# Altium integrated library ON Semi Signal Management Digital POTs.IntLib: 284 symbols (part 6 of 11)
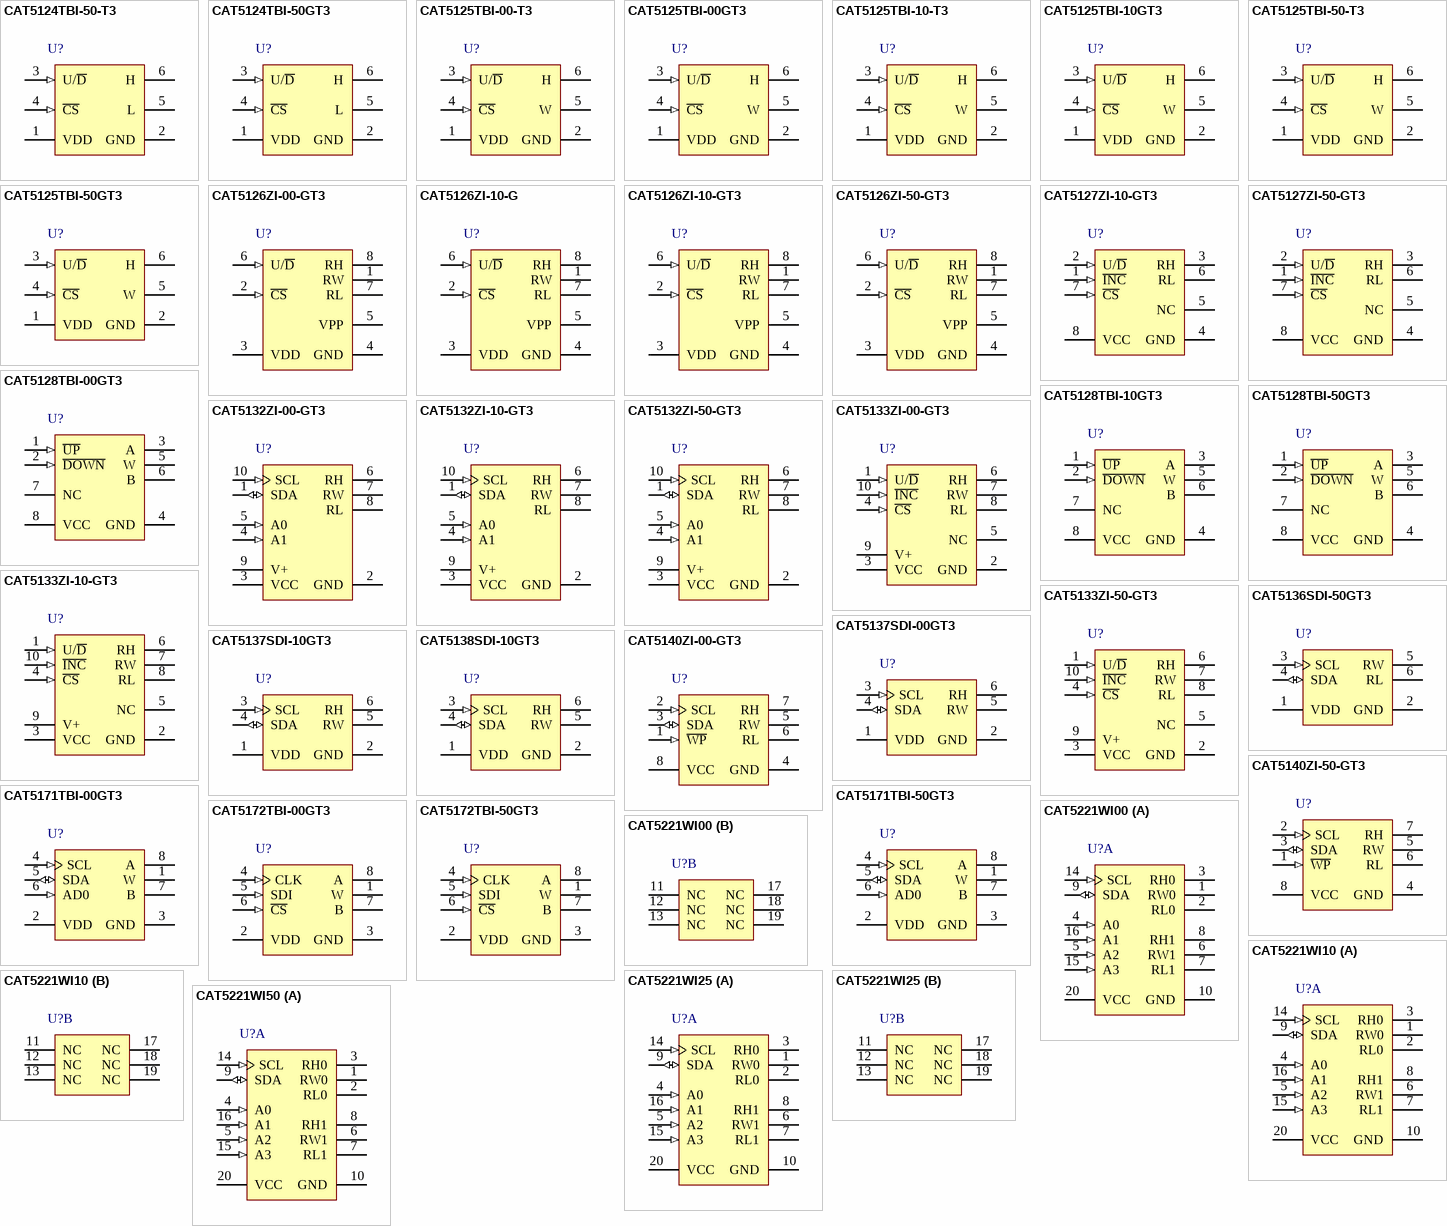
[diagram p14: symbols CAT5124TBI-50-T3 to CAT5221WI50]

## CAT5221WI25
designator U?
Dual Digital Potentiometer (POT) with 64 Tap and I2C Interface, -40 to 85 degC, 20-Pin SOIC, Pb-Free, Tube; Manufacturer: On Semiconductor; PartNumber: CAT5221WI25; # of Pots: 2; # of Taps: 64; VDD Max (V): 6; DatasheetVersion: Rev. 14; PackageVersion: Rev. O, 12/2008; PackageReference: SOIC-20-751BJ-01; PackageDescription: 20-Pin Small Outline Integrated Circuit, Body 12.8 x 7.5 mm, Pitch 1.27 mm; Control Interface: I2C; Packing: Tube; RoHS: TRUE; Type: Potentiometer; Mounting Technology: Surface Mount; Code_JEDEC: MS-013; ComponentLink1Description: Manufacturer URL; ComponentLink1URL: http://www.onsemi.com/; ComponentLink2Description: Datasheet; ComponentLink2URL: http://www.onsemi.cn/pub_link/Collateral/CAT5221-D.PDF; ComponentLink3Description: Package Specification; ComponentLink3URL: http://www.onsemi.cn/pub_link/Collateral/751BJ.PDF
footprint ONSC-SOIC-20-751BJ-01_N (SOIC, 20-Leads, Body 13x7.6mm, Pitch 1.27mm, IPC Medium Density)
footprint ONSC-SOIC-20-751BJ-01_L (SOIC, 20-Leads, Body 13x7.6mm, Pitch 1.27mm, IPC High Density)
footprint ONSC-SOIC-20-751BJ-01_M (SOIC, 20-Leads, Body 13x7.6mm, Pitch 1.27mm, IPC Low Density)
part A pins: 1 RW0 "Wiper Terminal for Potentiometer 0", 2 RL0 "Low Reference Terminal for Potentiometer 0", 3 RH0 "High Reference Terminal for Potentiometer 0", 4 A0 (in) "Device Address, LSB", 5 A2 (in) "Device Address", 6 RW1 "Wiper Terminal for Potentiometer 1", 7 RL1 "Low Reference Terminal for Potentiometer 1", 8 RH1 "High Reference Terminal for Potentiometer 1", 9 SDA (io) "Serial Data Input/Output", 10 GND (power) "Ground", 14 SCL (in) "Bus Serial Clock", 15 A3 (in) "Device Address", 16 A1 (in) "Device Address", 20 VCC (power) "Supply Voltage"
part B pins: 11 NC "No Connect", 12 NC "No Connect", 13 NC "No Connect", 17 NC "No Connect", 18 NC "No Connect", 19 NC "No Connect"

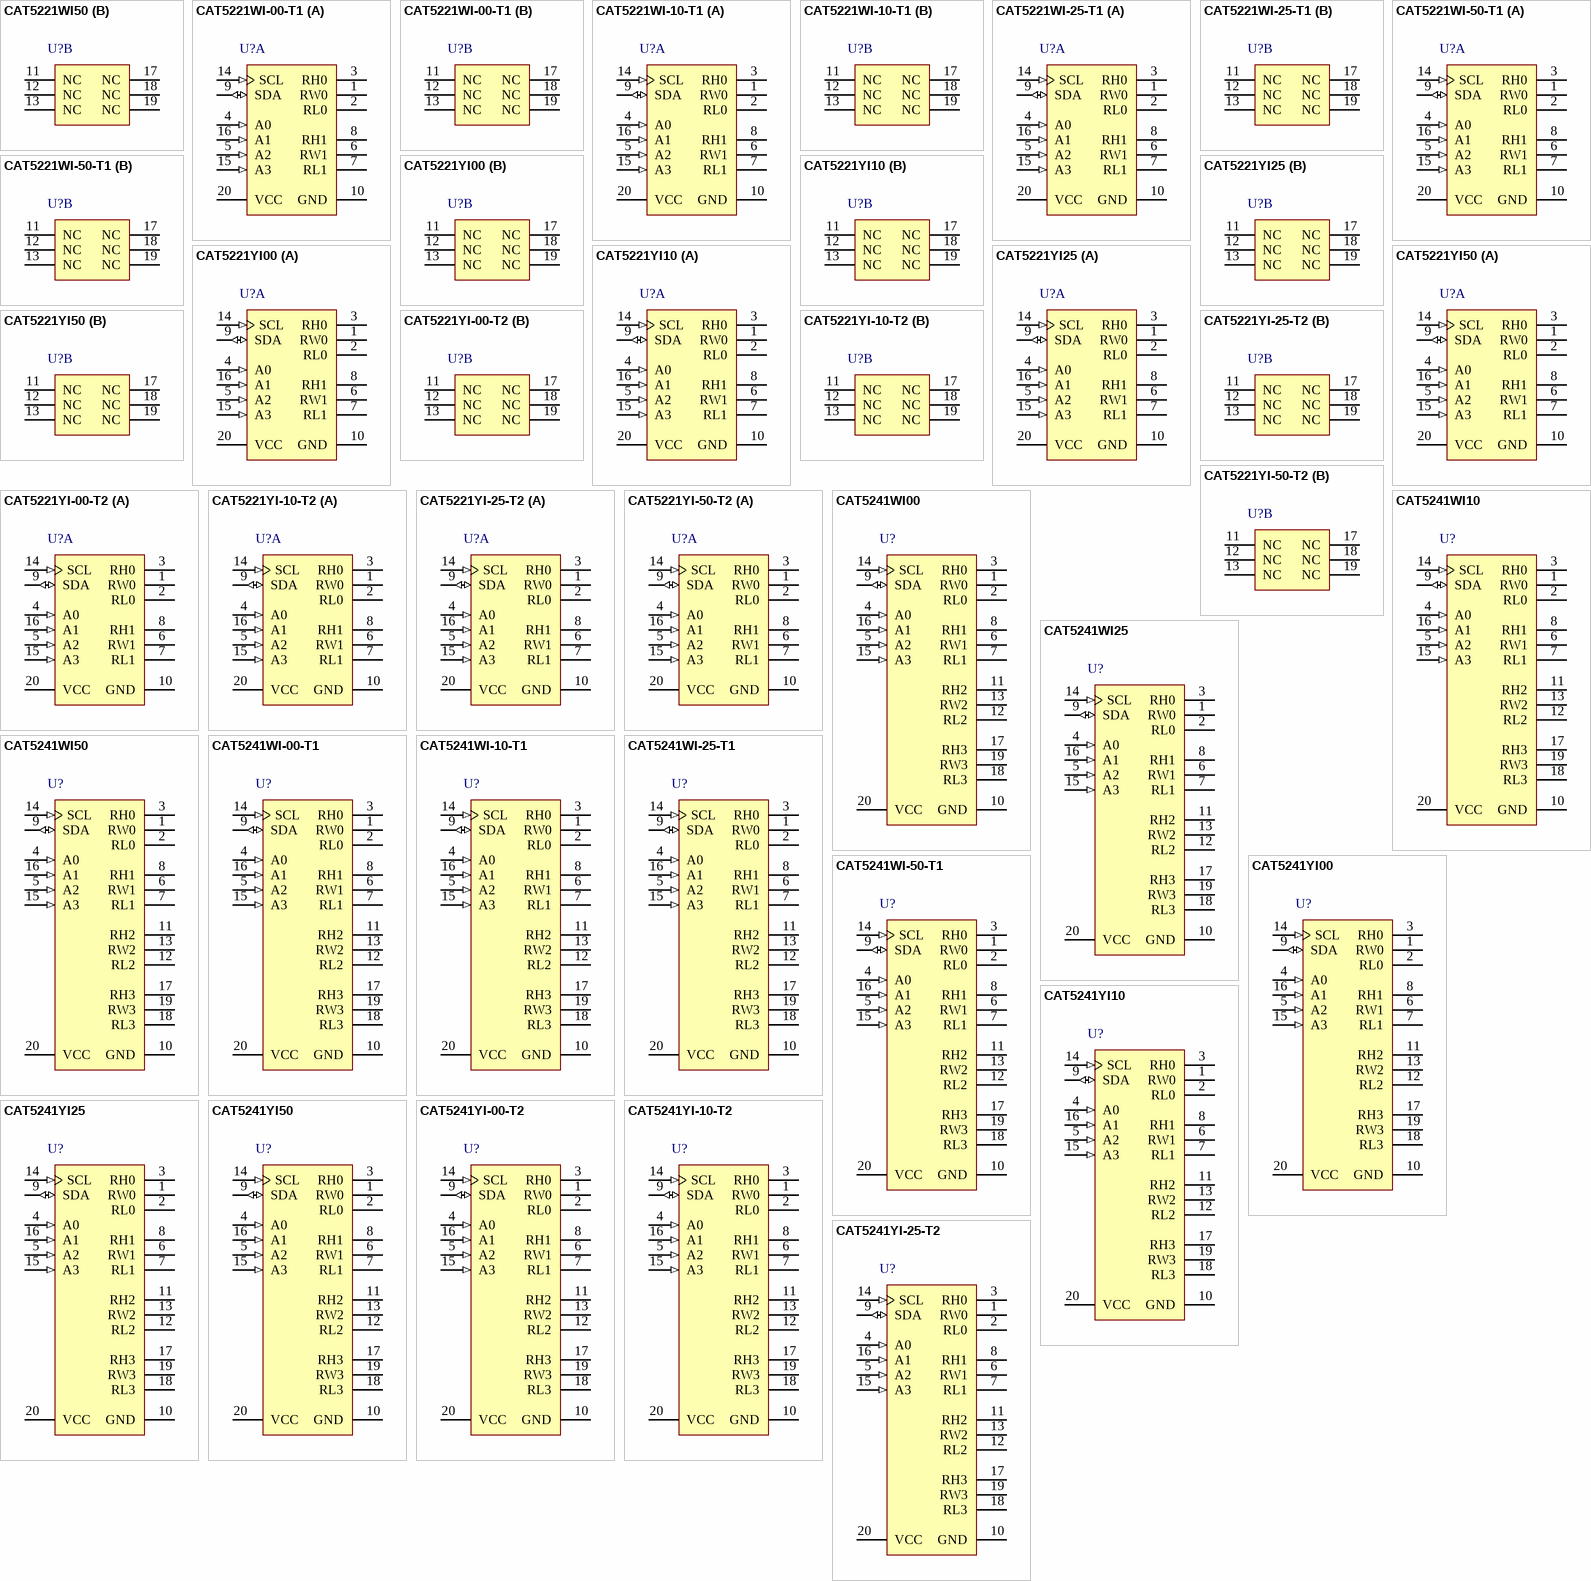
[diagram p4: symbols CAT5221WI50 to CAT5241YI-25-T2]

## CAT5221WI50
designator U?
Dual Digital Potentiometer (POT) with 64 Tap and I2C Interface, -40 to 85 degC, 20-Pin SOIC, Pb-Free, Tube; Manufacturer: On Semiconductor; PartNumber: CAT5221WI50; # of Pots: 2; # of Taps: 64; VDD Max (V): 6; DatasheetVersion: Rev. 14; PackageVersion: Rev. O, 12/2008; PackageReference: SOIC-20-751BJ-01; PackageDescription: 20-Pin Small Outline Integrated Circuit, Body 12.8 x 7.5 mm, Pitch 1.27 mm; Control Interface: I2C; Packing: Tube; RoHS: TRUE; Type: Potentiometer; Mounting Technology: Surface Mount; Code_JEDEC: MS-013; ComponentLink1Description: Manufacturer URL; ComponentLink1URL: http://www.onsemi.com/; ComponentLink2Description: Datasheet; ComponentLink2URL: http://www.onsemi.cn/pub_link/Collateral/CAT5221-D.PDF; ComponentLink3Description: Package Specification; ComponentLink3URL: http://www.onsemi.cn/pub_link/Collateral/751BJ.PDF
footprint ONSC-SOIC-20-751BJ-01_N (SOIC, 20-Leads, Body 13x7.6mm, Pitch 1.27mm, IPC Medium Density)
footprint ONSC-SOIC-20-751BJ-01_L (SOIC, 20-Leads, Body 13x7.6mm, Pitch 1.27mm, IPC High Density)
footprint ONSC-SOIC-20-751BJ-01_M (SOIC, 20-Leads, Body 13x7.6mm, Pitch 1.27mm, IPC Low Density)
part A pins: 1 RW0 "Wiper Terminal for Potentiometer 0", 2 RL0 "Low Reference Terminal for Potentiometer 0", 3 RH0 "High Reference Terminal for Potentiometer 0", 4 A0 (in) "Device Address, LSB", 5 A2 (in) "Device Address", 6 RW1 "Wiper Terminal for Potentiometer 1", 7 RL1 "Low Reference Terminal for Potentiometer 1", 8 RH1 "High Reference Terminal for Potentiometer 1", 9 SDA (io) "Serial Data Input/Output", 10 GND (power) "Ground", 14 SCL (in) "Bus Serial Clock", 15 A3 (in) "Device Address", 16 A1 (in) "Device Address", 20 VCC (power) "Supply Voltage"
part B pins: 11 NC "No Connect", 12 NC "No Connect", 13 NC "No Connect", 17 NC "No Connect", 18 NC "No Connect", 19 NC "No Connect"

## CAT5221WI-00-T1
designator U?
Dual Digital Potentiometer (POT) with 64 Tap and I2C Interface, -40 to 85 degC, 20-Pin SOIC, Pb-Free, Tape and Reel; Manufacturer: On Semiconductor; PartNumber: CAT5221WI-00-T1; # of Pots: 2; # of Taps: 64; VDD Max (V): 6; DatasheetVersion: Rev. 14; PackageVersion: Rev. O, 12/2008; PackageReference: SOIC-20-751BJ-01; PackageDescription: 20-Pin Small Outline Integrated Circuit, Body 12.8 x 7.5 mm, Pitch 1.27 mm; Supplier 1: Digi-Key; Supplier Part Number 1: CAT5221WI-00-T1-ND; Supplier 2: Mouser; Supplier Part Number 2: 863-CAT5221WI-00-T1; Control Interface: I2C; Packing: Tape and Reel; RoHS: TRUE; Type: Potentiometer; Mounting Technology: Surface Mount; Code_JEDEC: MS-013; ComponentLink1Description: Manufacturer URL; ComponentLink1URL: http://www.onsemi.com/; ComponentLink2Description: Datasheet; ComponentLink2URL: http://www.onsemi.cn/pub_link/Collateral/CAT5221-D.PDF; ComponentLink3Description: Package Specification; ComponentLink3URL: http://www.onsemi.cn/pub_link/Collateral/751BJ.PDF
footprint ONSC-SOIC-20-751BJ-01_N (SOIC, 20-Leads, Body 13x7.6mm, Pitch 1.27mm, IPC Medium Density)
footprint ONSC-SOIC-20-751BJ-01_L (SOIC, 20-Leads, Body 13x7.6mm, Pitch 1.27mm, IPC High Density)
footprint ONSC-SOIC-20-751BJ-01_M (SOIC, 20-Leads, Body 13x7.6mm, Pitch 1.27mm, IPC Low Density)
part A pins: 1 RW0 "Wiper Terminal for Potentiometer 0", 2 RL0 "Low Reference Terminal for Potentiometer 0", 3 RH0 "High Reference Terminal for Potentiometer 0", 4 A0 (in) "Device Address, LSB", 5 A2 (in) "Device Address", 6 RW1 "Wiper Terminal for Potentiometer 1", 7 RL1 "Low Reference Terminal for Potentiometer 1", 8 RH1 "High Reference Terminal for Potentiometer 1", 9 SDA (io) "Serial Data Input/Output", 10 GND (power) "Ground", 14 SCL (in) "Bus Serial Clock", 15 A3 (in) "Device Address", 16 A1 (in) "Device Address", 20 VCC (power) "Supply Voltage"
part B pins: 11 NC "No Connect", 12 NC "No Connect", 13 NC "No Connect", 17 NC "No Connect", 18 NC "No Connect", 19 NC "No Connect"

## CAT5221WI-10-T1
designator U?
Dual Digital Potentiometer (POT) with 64 Tap and I2C Interface, -40 to 85 degC, 20-Pin SOIC, Pb-Free, Tape and Reel; Manufacturer: On Semiconductor; PartNumber: CAT5221WI-10-T1; # of Pots: 2; # of Taps: 64; VDD Max (V): 6; DatasheetVersion: Rev. 14; PackageVersion: Rev. O, 12/2008; PackageReference: SOIC-20-751BJ-01; PackageDescription: 20-Pin Small Outline Integrated Circuit, Body 12.8 x 7.5 mm, Pitch 1.27 mm; Supplier 1: Digi-Key; Supplier Part Number 1: CAT5221WI-10-T1TR-ND; Supplier 2: Digi-Key; Supplier Part Number 2: CAT5221WI-10-T1CT-ND; Supplier 3: Digi-Key; Supplier Part Number 3: CAT5221WI-10-T1DKR-ND; Supplier 4: Newark; Supplier Part Number 4: 06R1242; Supplier 5: Mouser; Supplier Part Number 5: 698-CAT5221WI-10-T1; Control Interface: I2C; Packing: Tape and Reel; RoHS: TRUE; Type: Potentiometer; Mounting Technology: Surface Mount; Code_JEDEC: MS-013; ComponentLink1Description: Manufacturer URL; ComponentLink1URL: http://www.onsemi.com/; ComponentLink2Description: Datasheet; ComponentLink2URL: http://www.onsemi.cn/pub_link/Collateral/CAT5221-D.PDF; ComponentLink3Description: Package Specification; ComponentLink3URL: http://www.onsemi.cn/pub_link/Collateral/751BJ.PDF
footprint ONSC-SOIC-20-751BJ-01_N (SOIC, 20-Leads, Body 13x7.6mm, Pitch 1.27mm, IPC Medium Density)
footprint ONSC-SOIC-20-751BJ-01_L (SOIC, 20-Leads, Body 13x7.6mm, Pitch 1.27mm, IPC High Density)
footprint ONSC-SOIC-20-751BJ-01_M (SOIC, 20-Leads, Body 13x7.6mm, Pitch 1.27mm, IPC Low Density)
part A pins: 1 RW0 "Wiper Terminal for Potentiometer 0", 2 RL0 "Low Reference Terminal for Potentiometer 0", 3 RH0 "High Reference Terminal for Potentiometer 0", 4 A0 (in) "Device Address, LSB", 5 A2 (in) "Device Address", 6 RW1 "Wiper Terminal for Potentiometer 1", 7 RL1 "Low Reference Terminal for Potentiometer 1", 8 RH1 "High Reference Terminal for Potentiometer 1", 9 SDA (io) "Serial Data Input/Output", 10 GND (power) "Ground", 14 SCL (in) "Bus Serial Clock", 15 A3 (in) "Device Address", 16 A1 (in) "Device Address", 20 VCC (power) "Supply Voltage"
part B pins: 11 NC "No Connect", 12 NC "No Connect", 13 NC "No Connect", 17 NC "No Connect", 18 NC "No Connect", 19 NC "No Connect"

## CAT5221WI-25-T1
designator U?
Dual Digital Potentiometer (POT) with 64 Tap and I2C Interface, -40 to 85 degC, 20-Pin SOIC, Pb-Free, Tape and Reel; Manufacturer: On Semiconductor; PartNumber: CAT5221WI-25-T1; # of Pots: 2; # of Taps: 64; VDD Max (V): 6; DatasheetVersion: Rev. 14; PackageVersion: Rev. O, 12/2008; PackageReference: SOIC-20-751BJ-01; PackageDescription: 20-Pin Small Outline Integrated Circuit, Body 12.8 x 7.5 mm, Pitch 1.27 mm; Supplier 1: Digi-Key; Supplier Part Number 1: CAT5221WI-25-T1-ND; Supplier 2: Mouser; Supplier Part Number 2: 863-CAT5221WI-25-T1; Control Interface: I2C; Packing: Tape and Reel; RoHS: TRUE; Type: Potentiometer; Mounting Technology: Surface Mount; Code_JEDEC: MS-013; ComponentLink1Description: Manufacturer URL; ComponentLink1URL: http://www.onsemi.com/; ComponentLink2Description: Datasheet; ComponentLink2URL: http://www.onsemi.cn/pub_link/Collateral/CAT5221-D.PDF; ComponentLink3Description: Package Specification; ComponentLink3URL: http://www.onsemi.cn/pub_link/Collateral/751BJ.PDF
footprint ONSC-SOIC-20-751BJ-01_N (SOIC, 20-Leads, Body 13x7.6mm, Pitch 1.27mm, IPC Medium Density)
footprint ONSC-SOIC-20-751BJ-01_L (SOIC, 20-Leads, Body 13x7.6mm, Pitch 1.27mm, IPC High Density)
footprint ONSC-SOIC-20-751BJ-01_M (SOIC, 20-Leads, Body 13x7.6mm, Pitch 1.27mm, IPC Low Density)
part A pins: 1 RW0 "Wiper Terminal for Potentiometer 0", 2 RL0 "Low Reference Terminal for Potentiometer 0", 3 RH0 "High Reference Terminal for Potentiometer 0", 4 A0 (in) "Device Address, LSB", 5 A2 (in) "Device Address", 6 RW1 "Wiper Terminal for Potentiometer 1", 7 RL1 "Low Reference Terminal for Potentiometer 1", 8 RH1 "High Reference Terminal for Potentiometer 1", 9 SDA (io) "Serial Data Input/Output", 10 GND (power) "Ground", 14 SCL (in) "Bus Serial Clock", 15 A3 (in) "Device Address", 16 A1 (in) "Device Address", 20 VCC (power) "Supply Voltage"
part B pins: 11 NC "No Connect", 12 NC "No Connect", 13 NC "No Connect", 17 NC "No Connect", 18 NC "No Connect", 19 NC "No Connect"

## CAT5221WI-50-T1
designator U?
Dual Digital Potentiometer (POT) with 64 Tap and I2C Interface, -40 to 85 degC, 20-Pin SOIC, Pb-Free, Tape and Reel; Manufacturer: On Semiconductor; PartNumber: CAT5221WI-50-T1; # of Pots: 2; # of Taps: 64; VDD Max (V): 6; DatasheetVersion: Rev. 14; PackageVersion: Rev. O, 12/2008; PackageReference: SOIC-20-751BJ-01; PackageDescription: 20-Pin Small Outline Integrated Circuit, Body 12.8 x 7.5 mm, Pitch 1.27 mm; Supplier 1: Digi-Key; Supplier Part Number 1: CAT5221WI-50-T1-ND; Supplier 2: Mouser; Supplier Part Number 2: 863-CAT5221WI-50-T1; Control Interface: I2C; Packing: Tape and Reel; RoHS: TRUE; Type: Potentiometer; Mounting Technology: Surface Mount; Code_JEDEC: MS-013; ComponentLink1Description: Manufacturer URL; ComponentLink1URL: http://www.onsemi.com/; ComponentLink2Description: Datasheet; ComponentLink2URL: http://www.onsemi.cn/pub_link/Collateral/CAT5221-D.PDF; ComponentLink3Description: Package Specification; ComponentLink3URL: http://www.onsemi.cn/pub_link/Collateral/751BJ.PDF
footprint ONSC-SOIC-20-751BJ-01_N (SOIC, 20-Leads, Body 13x7.6mm, Pitch 1.27mm, IPC Medium Density)
footprint ONSC-SOIC-20-751BJ-01_L (SOIC, 20-Leads, Body 13x7.6mm, Pitch 1.27mm, IPC High Density)
footprint ONSC-SOIC-20-751BJ-01_M (SOIC, 20-Leads, Body 13x7.6mm, Pitch 1.27mm, IPC Low Density)
part A pins: 1 RW0 "Wiper Terminal for Potentiometer 0", 2 RL0 "Low Reference Terminal for Potentiometer 0", 3 RH0 "High Reference Terminal for Potentiometer 0", 4 A0 (in) "Device Address, LSB", 5 A2 (in) "Device Address", 6 RW1 "Wiper Terminal for Potentiometer 1", 7 RL1 "Low Reference Terminal for Potentiometer 1", 8 RH1 "High Reference Terminal for Potentiometer 1", 9 SDA (io) "Serial Data Input/Output", 10 GND (power) "Ground", 14 SCL (in) "Bus Serial Clock", 15 A3 (in) "Device Address", 16 A1 (in) "Device Address", 20 VCC (power) "Supply Voltage"
part B pins: 11 NC "No Connect", 12 NC "No Connect", 13 NC "No Connect", 17 NC "No Connect", 18 NC "No Connect", 19 NC "No Connect"

## CAT5221YI00
designator U?
Dual Digital Potentiometer (POT) with 64 Tap and I2C Interface, -40 to 85 degC, 20-Pin TSSOP, Pb-Free, Tube; Manufacturer: On Semiconductor; PartNumber: CAT5221YI00; # of Pots: 2; # of Taps: 64; VDD Max (V): 6; DatasheetVersion: Rev. 14; PackageVersion: Rev. A, 03/2009; PackageReference: TSSOP-20-948AQ-01; PackageDescription: 20-Pin Small Outline Package, Body 6.5 x 4.4 mm, Pitch 0.65 mm; Control Interface: I2C; Packing: Tube; RoHS: TRUE; Type: Potentiometer; Mounting Technology: Surface Mount; Code_JEDEC: MO-153; ComponentLink1Description: Manufacturer URL; ComponentLink1URL: http://www.onsemi.com/; ComponentLink2Description: Datasheet; ComponentLink2URL: http://www.onsemi.cn/pub_link/Collateral/CAT5221-D.PDF; ComponentLink3Description: Package Specification; ComponentLink3URL: http://www.onsemi.cn/pub_link/Collateral/948AQ.PDF
footprint ONSC-TSSOP-20-948AQ-01_N (SOP, 20-Leads, Body 6.6x4.5mm, Pitch 0.65mm, IPC Medium Density)
footprint ONSC-TSSOP-20-948AQ-01_L (SOP, 20-Leads, Body 6.6x4.5mm, Pitch 0.65mm, IPC High Density)
footprint ONSC-TSSOP-20-948AQ-01_M (SOP, 20-Leads, Body 6.6x4.5mm, Pitch 0.65mm, IPC Low Density)
part A pins: 1 RW0 "Wiper Terminal for Potentiometer 0", 2 RL0 "Low Reference Terminal for Potentiometer 0", 3 RH0 "High Reference Terminal for Potentiometer 0", 4 A0 (in) "Device Address, LSB", 5 A2 (in) "Device Address", 6 RW1 "Wiper Terminal for Potentiometer 1", 7 RL1 "Low Reference Terminal for Potentiometer 1", 8 RH1 "High Reference Terminal for Potentiometer 1", 9 SDA (io) "Serial Data Input/Output", 10 GND (power) "Ground", 14 SCL (in) "Bus Serial Clock", 15 A3 (in) "Device Address", 16 A1 (in) "Device Address", 20 VCC (power) "Supply Voltage"
part B pins: 11 NC "No Connect", 12 NC "No Connect", 13 NC "No Connect", 17 NC "No Connect", 18 NC "No Connect", 19 NC "No Connect"

## CAT5221YI10
designator U?
Dual Digital Potentiometer (POT) with 64 Tap and I2C Interface, -40 to 85 degC, 20-Pin TSSOP, Pb-Free, Tube; Manufacturer: On Semiconductor; PartNumber: CAT5221YI10; # of Pots: 2; # of Taps: 64; VDD Max (V): 6; DatasheetVersion: Rev. 14; PackageVersion: Rev. A, 03/2009; PackageReference: TSSOP-20-948AQ-01; PackageDescription: 20-Pin Small Outline Package, Body 6.5 x 4.4 mm, Pitch 0.65 mm; Control Interface: I2C; Packing: Tube; RoHS: TRUE; Type: Potentiometer; Mounting Technology: Surface Mount; Code_JEDEC: MO-153; ComponentLink1Description: Manufacturer URL; ComponentLink1URL: http://www.onsemi.com/; ComponentLink2Description: Datasheet; ComponentLink2URL: http://www.onsemi.cn/pub_link/Collateral/CAT5221-D.PDF; ComponentLink3Description: Package Specification; ComponentLink3URL: http://www.onsemi.cn/pub_link/Collateral/948AQ.PDF
footprint ONSC-TSSOP-20-948AQ-01_N (SOP, 20-Leads, Body 6.6x4.5mm, Pitch 0.65mm, IPC Medium Density)
footprint ONSC-TSSOP-20-948AQ-01_L (SOP, 20-Leads, Body 6.6x4.5mm, Pitch 0.65mm, IPC High Density)
footprint ONSC-TSSOP-20-948AQ-01_M (SOP, 20-Leads, Body 6.6x4.5mm, Pitch 0.65mm, IPC Low Density)
part A pins: 1 RW0 "Wiper Terminal for Potentiometer 0", 2 RL0 "Low Reference Terminal for Potentiometer 0", 3 RH0 "High Reference Terminal for Potentiometer 0", 4 A0 (in) "Device Address, LSB", 5 A2 (in) "Device Address", 6 RW1 "Wiper Terminal for Potentiometer 1", 7 RL1 "Low Reference Terminal for Potentiometer 1", 8 RH1 "High Reference Terminal for Potentiometer 1", 9 SDA (io) "Serial Data Input/Output", 10 GND (power) "Ground", 14 SCL (in) "Bus Serial Clock", 15 A3 (in) "Device Address", 16 A1 (in) "Device Address", 20 VCC (power) "Supply Voltage"
part B pins: 11 NC "No Connect", 12 NC "No Connect", 13 NC "No Connect", 17 NC "No Connect", 18 NC "No Connect", 19 NC "No Connect"

## CAT5221YI25
designator U?
Dual Digital Potentiometer (POT) with 64 Tap and I2C Interface, -40 to 85 degC, 20-Pin TSSOP, Pb-Free, Tube; Manufacturer: On Semiconductor; PartNumber: CAT5221YI25; # of Pots: 2; # of Taps: 64; VDD Max (V): 6; DatasheetVersion: Rev. 14; PackageVersion: Rev. A, 03/2009; PackageReference: TSSOP-20-948AQ-01; PackageDescription: 20-Pin Small Outline Package, Body 6.5 x 4.4 mm, Pitch 0.65 mm; Supplier 1: Digi-Key; Supplier Part Number 1: CAT5221YI25-ND; Supplier 2: Mouser; Supplier Part Number 2: 698-CAT5221YI-25; Control Interface: I2C; Packing: Tube; RoHS: TRUE; Type: Potentiometer; Mounting Technology: Surface Mount; Code_JEDEC: MO-153; ComponentLink1Description: Manufacturer URL; ComponentLink1URL: http://www.onsemi.com/; ComponentLink2Description: Datasheet; ComponentLink2URL: http://www.onsemi.cn/pub_link/Collateral/CAT5221-D.PDF; ComponentLink3Description: Package Specification; ComponentLink3URL: http://www.onsemi.cn/pub_link/Collateral/948AQ.PDF
footprint ONSC-TSSOP-20-948AQ-01_N (SOP, 20-Leads, Body 6.6x4.5mm, Pitch 0.65mm, IPC Medium Density)
footprint ONSC-TSSOP-20-948AQ-01_L (SOP, 20-Leads, Body 6.6x4.5mm, Pitch 0.65mm, IPC High Density)
footprint ONSC-TSSOP-20-948AQ-01_M (SOP, 20-Leads, Body 6.6x4.5mm, Pitch 0.65mm, IPC Low Density)
part A pins: 1 RW0 "Wiper Terminal for Potentiometer 0", 2 RL0 "Low Reference Terminal for Potentiometer 0", 3 RH0 "High Reference Terminal for Potentiometer 0", 4 A0 (in) "Device Address, LSB", 5 A2 (in) "Device Address", 6 RW1 "Wiper Terminal for Potentiometer 1", 7 RL1 "Low Reference Terminal for Potentiometer 1", 8 RH1 "High Reference Terminal for Potentiometer 1", 9 SDA (io) "Serial Data Input/Output", 10 GND (power) "Ground", 14 SCL (in) "Bus Serial Clock", 15 A3 (in) "Device Address", 16 A1 (in) "Device Address", 20 VCC (power) "Supply Voltage"
part B pins: 11 NC "No Connect", 12 NC "No Connect", 13 NC "No Connect", 17 NC "No Connect", 18 NC "No Connect", 19 NC "No Connect"

## CAT5221YI50
designator U?
Dual Digital Potentiometer (POT) with 64 Tap and I2C Interface, -40 to 85 degC, 20-Pin TSSOP, Pb-Free, Tube; Manufacturer: On Semiconductor; PartNumber: CAT5221YI50; # of Pots: 2; # of Taps: 64; VDD Max (V): 6; DatasheetVersion: Rev. 14; PackageVersion: Rev. A, 03/2009; PackageReference: TSSOP-20-948AQ-01; PackageDescription: 20-Pin Small Outline Package, Body 6.5 x 4.4 mm, Pitch 0.65 mm; Control Interface: I2C; Packing: Tube; RoHS: TRUE; Type: Potentiometer; Mounting Technology: Surface Mount; Code_JEDEC: MO-153; ComponentLink1Description: Manufacturer URL; ComponentLink1URL: http://www.onsemi.com/; ComponentLink2Description: Datasheet; ComponentLink2URL: http://www.onsemi.cn/pub_link/Collateral/CAT5221-D.PDF; ComponentLink3Description: Package Specification; ComponentLink3URL: http://www.onsemi.cn/pub_link/Collateral/948AQ.PDF
footprint ONSC-TSSOP-20-948AQ-01_N (SOP, 20-Leads, Body 6.6x4.5mm, Pitch 0.65mm, IPC Medium Density)
footprint ONSC-TSSOP-20-948AQ-01_L (SOP, 20-Leads, Body 6.6x4.5mm, Pitch 0.65mm, IPC High Density)
footprint ONSC-TSSOP-20-948AQ-01_M (SOP, 20-Leads, Body 6.6x4.5mm, Pitch 0.65mm, IPC Low Density)
part A pins: 1 RW0 "Wiper Terminal for Potentiometer 0", 2 RL0 "Low Reference Terminal for Potentiometer 0", 3 RH0 "High Reference Terminal for Potentiometer 0", 4 A0 (in) "Device Address, LSB", 5 A2 (in) "Device Address", 6 RW1 "Wiper Terminal for Potentiometer 1", 7 RL1 "Low Reference Terminal for Potentiometer 1", 8 RH1 "High Reference Terminal for Potentiometer 1", 9 SDA (io) "Serial Data Input/Output", 10 GND (power) "Ground", 14 SCL (in) "Bus Serial Clock", 15 A3 (in) "Device Address", 16 A1 (in) "Device Address", 20 VCC (power) "Supply Voltage"
part B pins: 11 NC "No Connect", 12 NC "No Connect", 13 NC "No Connect", 17 NC "No Connect", 18 NC "No Connect", 19 NC "No Connect"

## CAT5221YI-00-T2
designator U?
Dual Digital Potentiometer (POT) with 64 Tap and I2C Interface, -40 to 85 degC, 20-Pin TSSOP, Pb-Free, Tape and Reel; Manufacturer: On Semiconductor; PartNumber: CAT5221YI-00-T2; # of Pots: 2; # of Taps: 64; VDD Max (V): 6; DatasheetVersion: Rev. 14; PackageVersion: Rev. A, 03/2009; PackageReference: TSSOP-20-948AQ-01; PackageDescription: 20-Pin Small Outline Package, Body 6.5 x 4.4 mm, Pitch 0.65 mm; Supplier 1: Digi-Key; Supplier Part Number 1: CAT5221YI-00-T2-ND; Supplier 2: Mouser; Supplier Part Number 2: 863-CAT5221YI-00-T2; Control Interface: I2C; Packing: Tape and Reel; RoHS: TRUE; Type: Potentiometer; Mounting Technology: Surface Mount; Code_JEDEC: MO-153; ComponentLink1Description: Manufacturer URL; ComponentLink1URL: http://www.onsemi.com/; ComponentLink2Description: Datasheet; ComponentLink2URL: http://www.onsemi.cn/pub_link/Collateral/CAT5221-D.PDF; ComponentLink3Description: Package Specification; ComponentLink3URL: http://www.onsemi.cn/pub_link/Collateral/948AQ.PDF
footprint ONSC-TSSOP-20-948AQ-01_N (SOP, 20-Leads, Body 6.6x4.5mm, Pitch 0.65mm, IPC Medium Density)
footprint ONSC-TSSOP-20-948AQ-01_L (SOP, 20-Leads, Body 6.6x4.5mm, Pitch 0.65mm, IPC High Density)
footprint ONSC-TSSOP-20-948AQ-01_M (SOP, 20-Leads, Body 6.6x4.5mm, Pitch 0.65mm, IPC Low Density)
part A pins: 1 RW0 "Wiper Terminal for Potentiometer 0", 2 RL0 "Low Reference Terminal for Potentiometer 0", 3 RH0 "High Reference Terminal for Potentiometer 0", 4 A0 (in) "Device Address, LSB", 5 A2 (in) "Device Address", 6 RW1 "Wiper Terminal for Potentiometer 1", 7 RL1 "Low Reference Terminal for Potentiometer 1", 8 RH1 "High Reference Terminal for Potentiometer 1", 9 SDA (io) "Serial Data Input/Output", 10 GND (power) "Ground", 14 SCL (in) "Bus Serial Clock", 15 A3 (in) "Device Address", 16 A1 (in) "Device Address", 20 VCC (power) "Supply Voltage"
part B pins: 11 NC "No Connect", 12 NC "No Connect", 13 NC "No Connect", 17 NC "No Connect", 18 NC "No Connect", 19 NC "No Connect"

## CAT5221YI-10-T2
designator U?
Dual Digital Potentiometer (POT) with 64 Tap and I2C Interface, -40 to 85 degC, 20-Pin TSSOP, Pb-Free, Tape and Reel; Manufacturer: On Semiconductor; PartNumber: CAT5221YI-10-T2; # of Pots: 2; # of Taps: 64; VDD Max (V): 6; DatasheetVersion: Rev. 14; PackageVersion: Rev. A, 03/2009; PackageReference: TSSOP-20-948AQ-01; PackageDescription: 20-Pin Small Outline Package, Body 6.5 x 4.4 mm, Pitch 0.65 mm; Supplier 1: Digi-Key; Supplier Part Number 1: CAT5221YI-10-T2-ND; Supplier 2: Mouser; Supplier Part Number 2: 863-CAT5221YI-10-T2; Control Interface: I2C; Packing: Tape and Reel; RoHS: TRUE; Type: Potentiometer; Mounting Technology: Surface Mount; Code_JEDEC: MO-153; ComponentLink1Description: Manufacturer URL; ComponentLink1URL: http://www.onsemi.com/; ComponentLink2Description: Datasheet; ComponentLink2URL: http://www.onsemi.cn/pub_link/Collateral/CAT5221-D.PDF; ComponentLink3Description: Package Specification; ComponentLink3URL: http://www.onsemi.cn/pub_link/Collateral/948AQ.PDF
footprint ONSC-TSSOP-20-948AQ-01_N (SOP, 20-Leads, Body 6.6x4.5mm, Pitch 0.65mm, IPC Medium Density)
footprint ONSC-TSSOP-20-948AQ-01_L (SOP, 20-Leads, Body 6.6x4.5mm, Pitch 0.65mm, IPC High Density)
footprint ONSC-TSSOP-20-948AQ-01_M (SOP, 20-Leads, Body 6.6x4.5mm, Pitch 0.65mm, IPC Low Density)
part A pins: 1 RW0 "Wiper Terminal for Potentiometer 0", 2 RL0 "Low Reference Terminal for Potentiometer 0", 3 RH0 "High Reference Terminal for Potentiometer 0", 4 A0 (in) "Device Address, LSB", 5 A2 (in) "Device Address", 6 RW1 "Wiper Terminal for Potentiometer 1", 7 RL1 "Low Reference Terminal for Potentiometer 1", 8 RH1 "High Reference Terminal for Potentiometer 1", 9 SDA (io) "Serial Data Input/Output", 10 GND (power) "Ground", 14 SCL (in) "Bus Serial Clock", 15 A3 (in) "Device Address", 16 A1 (in) "Device Address", 20 VCC (power) "Supply Voltage"
part B pins: 11 NC "No Connect", 12 NC "No Connect", 13 NC "No Connect", 17 NC "No Connect", 18 NC "No Connect", 19 NC "No Connect"

## CAT5221YI-25-T2
designator U?
Dual Digital Potentiometer (POT) with 64 Tap and I2C Interface, -40 to 85 degC, 20-Pin TSSOP, Pb-Free, Tape and Reel; Manufacturer: On Semiconductor; PartNumber: CAT5221YI-25-T2; # of Pots: 2; # of Taps: 64; VDD Max (V): 6; DatasheetVersion: Rev. 14; PackageVersion: Rev. A, 03/2009; PackageReference: TSSOP-20-948AQ-01; PackageDescription: 20-Pin Small Outline Package, Body 6.5 x 4.4 mm, Pitch 0.65 mm; Supplier 1: Digi-Key; Supplier Part Number 1: CAT5221YI-25-T2-ND; Supplier 2: Mouser; Supplier Part Number 2: 698-CAT5221YI-25-T2; Control Interface: I2C; Packing: Tape and Reel; RoHS: TRUE; Type: Potentiometer; Mounting Technology: Surface Mount; Code_JEDEC: MO-153; ComponentLink1Description: Manufacturer URL; ComponentLink1URL: http://www.onsemi.com/; ComponentLink2Description: Datasheet; ComponentLink2URL: http://www.onsemi.cn/pub_link/Collateral/CAT5221-D.PDF; ComponentLink3Description: Package Specification; ComponentLink3URL: http://www.onsemi.cn/pub_link/Collateral/948AQ.PDF
footprint ONSC-TSSOP-20-948AQ-01_N (SOP, 20-Leads, Body 6.6x4.5mm, Pitch 0.65mm, IPC Medium Density)
footprint ONSC-TSSOP-20-948AQ-01_L (SOP, 20-Leads, Body 6.6x4.5mm, Pitch 0.65mm, IPC High Density)
footprint ONSC-TSSOP-20-948AQ-01_M (SOP, 20-Leads, Body 6.6x4.5mm, Pitch 0.65mm, IPC Low Density)
part A pins: 1 RW0 "Wiper Terminal for Potentiometer 0", 2 RL0 "Low Reference Terminal for Potentiometer 0", 3 RH0 "High Reference Terminal for Potentiometer 0", 4 A0 (in) "Device Address, LSB", 5 A2 (in) "Device Address", 6 RW1 "Wiper Terminal for Potentiometer 1", 7 RL1 "Low Reference Terminal for Potentiometer 1", 8 RH1 "High Reference Terminal for Potentiometer 1", 9 SDA (io) "Serial Data Input/Output", 10 GND (power) "Ground", 14 SCL (in) "Bus Serial Clock", 15 A3 (in) "Device Address", 16 A1 (in) "Device Address", 20 VCC (power) "Supply Voltage"
part B pins: 11 NC "No Connect", 12 NC "No Connect", 13 NC "No Connect", 17 NC "No Connect", 18 NC "No Connect", 19 NC "No Connect"

## CAT5221YI-50-T2
designator U?
Dual Digital Potentiometer (POT) with 64 Tap and I2C Interface, -40 to 85 degC, 20-Pin TSSOP, Pb-Free, Tape and Reel; Manufacturer: On Semiconductor; PartNumber: CAT5221YI-50-T2; # of Pots: 2; # of Taps: 64; VDD Max (V): 6; DatasheetVersion: Rev. 14; PackageVersion: Rev. A, 03/2009; PackageReference: TSSOP-20-948AQ-01; PackageDescription: 20-Pin Small Outline Package, Body 6.5 x 4.4 mm, Pitch 0.65 mm; Supplier 1: Digi-Key; Supplier Part Number 1: CAT5221YI-50-T2-ND; Supplier 2: Mouser; Supplier Part Number 2: 863-CAT5221YI-50-T2; Control Interface: I2C; Packing: Tape and Reel; RoHS: TRUE; Type: Potentiometer; Mounting Technology: Surface Mount; Code_JEDEC: MO-153; ComponentLink1Description: Manufacturer URL; ComponentLink1URL: http://www.onsemi.com/; ComponentLink2Description: Datasheet; ComponentLink2URL: http://www.onsemi.cn/pub_link/Collateral/CAT5221-D.PDF; ComponentLink3Description: Package Specification; ComponentLink3URL: http://www.onsemi.cn/pub_link/Collateral/948AQ.PDF
footprint ONSC-TSSOP-20-948AQ-01_N (SOP, 20-Leads, Body 6.6x4.5mm, Pitch 0.65mm, IPC Medium Density)
footprint ONSC-TSSOP-20-948AQ-01_L (SOP, 20-Leads, Body 6.6x4.5mm, Pitch 0.65mm, IPC High Density)
footprint ONSC-TSSOP-20-948AQ-01_M (SOP, 20-Leads, Body 6.6x4.5mm, Pitch 0.65mm, IPC Low Density)
part A pins: 1 RW0 "Wiper Terminal for Potentiometer 0", 2 RL0 "Low Reference Terminal for Potentiometer 0", 3 RH0 "High Reference Terminal for Potentiometer 0", 4 A0 (in) "Device Address, LSB", 5 A2 (in) "Device Address", 6 RW1 "Wiper Terminal for Potentiometer 1", 7 RL1 "Low Reference Terminal for Potentiometer 1", 8 RH1 "High Reference Terminal for Potentiometer 1", 9 SDA (io) "Serial Data Input/Output", 10 GND (power) "Ground", 14 SCL (in) "Bus Serial Clock", 15 A3 (in) "Device Address", 16 A1 (in) "Device Address", 20 VCC (power) "Supply Voltage"
part B pins: 11 NC "No Connect", 12 NC "No Connect", 13 NC "No Connect", 17 NC "No Connect", 18 NC "No Connect", 19 NC "No Connect"

## CAT5241WI00
designator U?
Quad Digital Potentiometer (POT) with 64 Tap and I2C Interface, -40 to 85 degC, 20-Pin SOIC, Pb-Free, Tube; Manufacturer: On Semiconductor; PartNumber: CAT5241WI00; # of Pots: 4; # of Taps: 64; VDD Max (V): 6; DatasheetVersion: Rev. 20; PackageVersion: Rev. O, 12/2008; PackageReference: SOIC-20-751BJ-01; PackageDescription: 20-Pin Small Outline Integrated Circuit, Body 12.8 x 7.5 mm, Pitch 1.27 mm; Supplier 1: Mouser; Supplier Part Number 1: 698-CAT5241WI-00; Control Interface: I2C; Packing: Tube; RoHS: TRUE; Type: Potentiometer; Mounting Technology: Surface Mount; Code_JEDEC: MS-013; ComponentLink1Description: Manufacturer URL; ComponentLink1URL: http://www.onsemi.com/; ComponentLink2Description: Datasheet; ComponentLink2URL: http://www.onsemi.cn/pub_link/Collateral/CAT5241-D.PDF; ComponentLink3Description: Package Specification; ComponentLink3URL: http://www.onsemi.cn/pub_link/Collateral/751BJ.PDF
footprint ONSC-SOIC-20-751BJ-01_N (SOIC, 20-Leads, Body 13x7.6mm, Pitch 1.27mm, IPC Medium Density)
footprint ONSC-SOIC-20-751BJ-01_L (SOIC, 20-Leads, Body 13x7.6mm, Pitch 1.27mm, IPC High Density)
footprint ONSC-SOIC-20-751BJ-01_M (SOIC, 20-Leads, Body 13x7.6mm, Pitch 1.27mm, IPC Low Density)
pins: 1 RW0 "Wiper Terminal for Potentiometer 0", 2 RL0 "Low Reference Terminal for Potentiometer 0", 3 RH0 "High Reference Terminal for Potentiometer 0", 4 A0 (in) "Device Address, LSB", 5 A2 (in) "Device Address", 6 RW1 "Wiper Terminal for Potentiometer 1", 7 RL1 "Low Reference Terminal for Potentiometer 1", 8 RH1 "High Reference Terminal for Potentiometer 1", 9 SDA (io) "Serial Data Input/Output", 10 GND (power) "Ground", 11 RH2 "High Reference Terminal for Potentiometer 2", 12 RL2 "Low Reference Terminal for Potentiometer 2", 13 RW2 "Wiper Terminal forPotentiometer 2", 14 SCL (in) "Bus Serial Clock", 15 A3 (in) "Device Address", 16 A1 (in) "Device Address", 17 RH3 "High Reference Terminal for Potentiometer 3", 18 RL3 "Low Reference Terminal for Potentiometer 3", 19 RW3 "Wiper Terminal for Potentiometer 3", 20 VCC (power) "Supply Voltage"

## CAT5241WI10
designator U?
Quad Digital Potentiometer (POT) with 64 Tap and I2C Interface, -40 to 85 degC, 20-Pin SOIC, Pb-Free, Tube; Manufacturer: On Semiconductor; PartNumber: CAT5241WI10; # of Pots: 4; # of Taps: 64; VDD Max (V): 6; DatasheetVersion: Rev. 20; PackageVersion: Rev. O, 12/2008; PackageReference: SOIC-20-751BJ-01; PackageDescription: 20-Pin Small Outline Integrated Circuit, Body 12.8 x 7.5 mm, Pitch 1.27 mm; Supplier 1: Mouser; Supplier Part Number 1: 698-CAT5241WI-10; Control Interface: I2C; Packing: Tube; RoHS: TRUE; Type: Potentiometer; Mounting Technology: Surface Mount; Code_JEDEC: MS-013; ComponentLink1Description: Manufacturer URL; ComponentLink1URL: http://www.onsemi.com/; ComponentLink2Description: Datasheet; ComponentLink2URL: http://www.onsemi.cn/pub_link/Collateral/CAT5241-D.PDF; ComponentLink3Description: Package Specification; ComponentLink3URL: http://www.onsemi.cn/pub_link/Collateral/751BJ.PDF
footprint ONSC-SOIC-20-751BJ-01_N (SOIC, 20-Leads, Body 13x7.6mm, Pitch 1.27mm, IPC Medium Density)
footprint ONSC-SOIC-20-751BJ-01_L (SOIC, 20-Leads, Body 13x7.6mm, Pitch 1.27mm, IPC High Density)
footprint ONSC-SOIC-20-751BJ-01_M (SOIC, 20-Leads, Body 13x7.6mm, Pitch 1.27mm, IPC Low Density)
pins: 1 RW0 "Wiper Terminal for Potentiometer 0", 2 RL0 "Low Reference Terminal for Potentiometer 0", 3 RH0 "High Reference Terminal for Potentiometer 0", 4 A0 (in) "Device Address, LSB", 5 A2 (in) "Device Address", 6 RW1 "Wiper Terminal for Potentiometer 1", 7 RL1 "Low Reference Terminal for Potentiometer 1", 8 RH1 "High Reference Terminal for Potentiometer 1", 9 SDA (io) "Serial Data Input/Output", 10 GND (power) "Ground", 11 RH2 "High Reference Terminal for Potentiometer 2", 12 RL2 "Low Reference Terminal for Potentiometer 2", 13 RW2 "Wiper Terminal forPotentiometer 2", 14 SCL (in) "Bus Serial Clock", 15 A3 (in) "Device Address", 16 A1 (in) "Device Address", 17 RH3 "High Reference Terminal for Potentiometer 3", 18 RL3 "Low Reference Terminal for Potentiometer 3", 19 RW3 "Wiper Terminal for Potentiometer 3", 20 VCC (power) "Supply Voltage"

## CAT5241WI25
designator U?
Quad Digital Potentiometer (POT) with 64 Tap and I2C Interface, -40 to 85 degC, 20-Pin SOIC, Pb-Free, Tube; Manufacturer: On Semiconductor; PartNumber: CAT5241WI25; # of Pots: 4; # of Taps: 64; VDD Max (V): 6; DatasheetVersion: Rev. 20; PackageVersion: Rev. O, 12/2008; PackageReference: SOIC-20-751BJ-01; PackageDescription: 20-Pin Small Outline Integrated Circuit, Body 12.8 x 7.5 mm, Pitch 1.27 mm; Supplier 1: Mouser; Supplier Part Number 1: 698-CAT5241WI-25; Control Interface: I2C; Packing: Tube; RoHS: TRUE; Type: Potentiometer; Mounting Technology: Surface Mount; Code_JEDEC: MS-013; ComponentLink1Description: Manufacturer URL; ComponentLink1URL: http://www.onsemi.com/; ComponentLink2Description: Datasheet; ComponentLink2URL: http://www.onsemi.cn/pub_link/Collateral/CAT5241-D.PDF; ComponentLink3Description: Package Specification; ComponentLink3URL: http://www.onsemi.cn/pub_link/Collateral/751BJ.PDF
footprint ONSC-SOIC-20-751BJ-01_N (SOIC, 20-Leads, Body 13x7.6mm, Pitch 1.27mm, IPC Medium Density)
footprint ONSC-SOIC-20-751BJ-01_L (SOIC, 20-Leads, Body 13x7.6mm, Pitch 1.27mm, IPC High Density)
footprint ONSC-SOIC-20-751BJ-01_M (SOIC, 20-Leads, Body 13x7.6mm, Pitch 1.27mm, IPC Low Density)
pins: 1 RW0 "Wiper Terminal for Potentiometer 0", 2 RL0 "Low Reference Terminal for Potentiometer 0", 3 RH0 "High Reference Terminal for Potentiometer 0", 4 A0 (in) "Device Address, LSB", 5 A2 (in) "Device Address", 6 RW1 "Wiper Terminal for Potentiometer 1", 7 RL1 "Low Reference Terminal for Potentiometer 1", 8 RH1 "High Reference Terminal for Potentiometer 1", 9 SDA (io) "Serial Data Input/Output", 10 GND (power) "Ground", 11 RH2 "High Reference Terminal for Potentiometer 2", 12 RL2 "Low Reference Terminal for Potentiometer 2", 13 RW2 "Wiper Terminal forPotentiometer 2", 14 SCL (in) "Bus Serial Clock", 15 A3 (in) "Device Address", 16 A1 (in) "Device Address", 17 RH3 "High Reference Terminal for Potentiometer 3", 18 RL3 "Low Reference Terminal for Potentiometer 3", 19 RW3 "Wiper Terminal for Potentiometer 3", 20 VCC (power) "Supply Voltage"

## CAT5241WI50
designator U?
Quad Digital Potentiometer (POT) with 64 Tap and I2C Interface, -40 to 85 degC, 20-Pin SOIC, Pb-Free, Tube; Manufacturer: On Semiconductor; PartNumber: CAT5241WI50; # of Pots: 4; # of Taps: 64; VDD Max (V): 6; DatasheetVersion: Rev. 20; PackageVersion: Rev. O, 12/2008; PackageReference: SOIC-20-751BJ-01; PackageDescription: 20-Pin Small Outline Integrated Circuit, Body 12.8 x 7.5 mm, Pitch 1.27 mm; Supplier 1: Mouser; Supplier Part Number 1: 698-CAT5241WI-50; Control Interface: I2C; Packing: Tube; RoHS: TRUE; Type: Potentiometer; Mounting Technology: Surface Mount; Code_JEDEC: MS-013; ComponentLink1Description: Manufacturer URL; ComponentLink1URL: http://www.onsemi.com/; ComponentLink2Description: Datasheet; ComponentLink2URL: http://www.onsemi.cn/pub_link/Collateral/CAT5241-D.PDF; ComponentLink3Description: Package Specification; ComponentLink3URL: http://www.onsemi.cn/pub_link/Collateral/751BJ.PDF
footprint ONSC-SOIC-20-751BJ-01_N (SOIC, 20-Leads, Body 13x7.6mm, Pitch 1.27mm, IPC Medium Density)
footprint ONSC-SOIC-20-751BJ-01_L (SOIC, 20-Leads, Body 13x7.6mm, Pitch 1.27mm, IPC High Density)
footprint ONSC-SOIC-20-751BJ-01_M (SOIC, 20-Leads, Body 13x7.6mm, Pitch 1.27mm, IPC Low Density)
pins: 1 RW0 "Wiper Terminal for Potentiometer 0", 2 RL0 "Low Reference Terminal for Potentiometer 0", 3 RH0 "High Reference Terminal for Potentiometer 0", 4 A0 (in) "Device Address, LSB", 5 A2 (in) "Device Address", 6 RW1 "Wiper Terminal for Potentiometer 1", 7 RL1 "Low Reference Terminal for Potentiometer 1", 8 RH1 "High Reference Terminal for Potentiometer 1", 9 SDA (io) "Serial Data Input/Output", 10 GND (power) "Ground", 11 RH2 "High Reference Terminal for Potentiometer 2", 12 RL2 "Low Reference Terminal for Potentiometer 2", 13 RW2 "Wiper Terminal forPotentiometer 2", 14 SCL (in) "Bus Serial Clock", 15 A3 (in) "Device Address", 16 A1 (in) "Device Address", 17 RH3 "High Reference Terminal for Potentiometer 3", 18 RL3 "Low Reference Terminal for Potentiometer 3", 19 RW3 "Wiper Terminal for Potentiometer 3", 20 VCC (power) "Supply Voltage"

## CAT5241WI-00-T1
designator U?
Quad Digital Potentiometer (POT) with 64 Tap and I2C Interface, -40 to 85 degC, 20-Pin SOIC, Pb-Free, Tape and Reel; Manufacturer: On Semiconductor; PartNumber: CAT5241WI-00-T1; # of Pots: 4; # of Taps: 64; VDD Max (V): 6; DatasheetVersion: Rev. 20; PackageVersion: Rev. O, 12/2008; PackageReference: SOIC-20-751BJ-01; PackageDescription: 20-Pin Small Outline Integrated Circuit, Body 12.8 x 7.5 mm, Pitch 1.27 mm; Supplier 1: Mouser; Supplier Part Number 1: 863-CAT5241WI-00-T1; Control Interface: I2C; Packing: Tape and Reel; RoHS: TRUE; Type: Potentiometer; Mounting Technology: Surface Mount; Code_JEDEC: MS-013; ComponentLink1Description: Manufacturer URL; ComponentLink1URL: http://www.onsemi.com/; ComponentLink2Description: Datasheet; ComponentLink2URL: http://www.onsemi.cn/pub_link/Collateral/CAT5241-D.PDF; ComponentLink3Description: Package Specification; ComponentLink3URL: http://www.onsemi.cn/pub_link/Collateral/751BJ.PDF
footprint ONSC-SOIC-20-751BJ-01_N (SOIC, 20-Leads, Body 13x7.6mm, Pitch 1.27mm, IPC Medium Density)
footprint ONSC-SOIC-20-751BJ-01_L (SOIC, 20-Leads, Body 13x7.6mm, Pitch 1.27mm, IPC High Density)
footprint ONSC-SOIC-20-751BJ-01_M (SOIC, 20-Leads, Body 13x7.6mm, Pitch 1.27mm, IPC Low Density)
pins: 1 RW0 "Wiper Terminal for Potentiometer 0", 2 RL0 "Low Reference Terminal for Potentiometer 0", 3 RH0 "High Reference Terminal for Potentiometer 0", 4 A0 (in) "Device Address, LSB", 5 A2 (in) "Device Address", 6 RW1 "Wiper Terminal for Potentiometer 1", 7 RL1 "Low Reference Terminal for Potentiometer 1", 8 RH1 "High Reference Terminal for Potentiometer 1", 9 SDA (io) "Serial Data Input/Output", 10 GND (power) "Ground", 11 RH2 "High Reference Terminal for Potentiometer 2", 12 RL2 "Low Reference Terminal for Potentiometer 2", 13 RW2 "Wiper Terminal forPotentiometer 2", 14 SCL (in) "Bus Serial Clock", 15 A3 (in) "Device Address", 16 A1 (in) "Device Address", 17 RH3 "High Reference Terminal for Potentiometer 3", 18 RL3 "Low Reference Terminal for Potentiometer 3", 19 RW3 "Wiper Terminal for Potentiometer 3", 20 VCC (power) "Supply Voltage"

## CAT5241WI-10-T1
designator U?
Quad Digital Potentiometer (POT) with 64 Tap and I2C Interface, -40 to 85 degC, 20-Pin SOIC, Pb-Free, Tape and Reel; Manufacturer: On Semiconductor; PartNumber: CAT5241WI-10-T1; # of Pots: 4; # of Taps: 64; VDD Max (V): 6; DatasheetVersion: Rev. 20; PackageVersion: Rev. O, 12/2008; PackageReference: SOIC-20-751BJ-01; PackageDescription: 20-Pin Small Outline Integrated Circuit, Body 12.8 x 7.5 mm, Pitch 1.27 mm; Supplier 1: Mouser; Supplier Part Number 1: 863-CAT5241WI-10-T1; Control Interface: I2C; Packing: Tape and Reel; RoHS: TRUE; Type: Potentiometer; Mounting Technology: Surface Mount; Code_JEDEC: MS-013; ComponentLink1Description: Manufacturer URL; ComponentLink1URL: http://www.onsemi.com/; ComponentLink2Description: Datasheet; ComponentLink2URL: http://www.onsemi.cn/pub_link/Collateral/CAT5241-D.PDF; ComponentLink3Description: Package Specification; ComponentLink3URL: http://www.onsemi.cn/pub_link/Collateral/751BJ.PDF
footprint ONSC-SOIC-20-751BJ-01_N (SOIC, 20-Leads, Body 13x7.6mm, Pitch 1.27mm, IPC Medium Density)
footprint ONSC-SOIC-20-751BJ-01_L (SOIC, 20-Leads, Body 13x7.6mm, Pitch 1.27mm, IPC High Density)
footprint ONSC-SOIC-20-751BJ-01_M (SOIC, 20-Leads, Body 13x7.6mm, Pitch 1.27mm, IPC Low Density)
pins: 1 RW0 "Wiper Terminal for Potentiometer 0", 2 RL0 "Low Reference Terminal for Potentiometer 0", 3 RH0 "High Reference Terminal for Potentiometer 0", 4 A0 (in) "Device Address, LSB", 5 A2 (in) "Device Address", 6 RW1 "Wiper Terminal for Potentiometer 1", 7 RL1 "Low Reference Terminal for Potentiometer 1", 8 RH1 "High Reference Terminal for Potentiometer 1", 9 SDA (io) "Serial Data Input/Output", 10 GND (power) "Ground", 11 RH2 "High Reference Terminal for Potentiometer 2", 12 RL2 "Low Reference Terminal for Potentiometer 2", 13 RW2 "Wiper Terminal forPotentiometer 2", 14 SCL (in) "Bus Serial Clock", 15 A3 (in) "Device Address", 16 A1 (in) "Device Address", 17 RH3 "High Reference Terminal for Potentiometer 3", 18 RL3 "Low Reference Terminal for Potentiometer 3", 19 RW3 "Wiper Terminal for Potentiometer 3", 20 VCC (power) "Supply Voltage"

## CAT5241WI-25-T1
designator U?
Quad Digital Potentiometer (POT) with 64 Tap and I2C Interface, -40 to 85 degC, 20-Pin SOIC, Pb-Free, Tape and Reel; Manufacturer: On Semiconductor; PartNumber: CAT5241WI-25-T1; # of Pots: 4; # of Taps: 64; VDD Max (V): 6; DatasheetVersion: Rev. 20; PackageVersion: Rev. O, 12/2008; PackageReference: SOIC-20-751BJ-01; PackageDescription: 20-Pin Small Outline Integrated Circuit, Body 12.8 x 7.5 mm, Pitch 1.27 mm; Supplier 1: Mouser; Supplier Part Number 1: 863-CAT5241WI-25-T1; Control Interface: I2C; Packing: Tape and Reel; RoHS: TRUE; Type: Potentiometer; Mounting Technology: Surface Mount; Code_JEDEC: MS-013; ComponentLink1Description: Manufacturer URL; ComponentLink1URL: http://www.onsemi.com/; ComponentLink2Description: Datasheet; ComponentLink2URL: http://www.onsemi.cn/pub_link/Collateral/CAT5241-D.PDF; ComponentLink3Description: Package Specification; ComponentLink3URL: http://www.onsemi.cn/pub_link/Collateral/751BJ.PDF
footprint ONSC-SOIC-20-751BJ-01_N (SOIC, 20-Leads, Body 13x7.6mm, Pitch 1.27mm, IPC Medium Density)
footprint ONSC-SOIC-20-751BJ-01_L (SOIC, 20-Leads, Body 13x7.6mm, Pitch 1.27mm, IPC High Density)
footprint ONSC-SOIC-20-751BJ-01_M (SOIC, 20-Leads, Body 13x7.6mm, Pitch 1.27mm, IPC Low Density)
pins: 1 RW0 "Wiper Terminal for Potentiometer 0", 2 RL0 "Low Reference Terminal for Potentiometer 0", 3 RH0 "High Reference Terminal for Potentiometer 0", 4 A0 (in) "Device Address, LSB", 5 A2 (in) "Device Address", 6 RW1 "Wiper Terminal for Potentiometer 1", 7 RL1 "Low Reference Terminal for Potentiometer 1", 8 RH1 "High Reference Terminal for Potentiometer 1", 9 SDA (io) "Serial Data Input/Output", 10 GND (power) "Ground", 11 RH2 "High Reference Terminal for Potentiometer 2", 12 RL2 "Low Reference Terminal for Potentiometer 2", 13 RW2 "Wiper Terminal forPotentiometer 2", 14 SCL (in) "Bus Serial Clock", 15 A3 (in) "Device Address", 16 A1 (in) "Device Address", 17 RH3 "High Reference Terminal for Potentiometer 3", 18 RL3 "Low Reference Terminal for Potentiometer 3", 19 RW3 "Wiper Terminal for Potentiometer 3", 20 VCC (power) "Supply Voltage"

## CAT5241WI-50-T1
designator U?
Quad Digital Potentiometer (POT) with 64 Tap and I2C Interface, -40 to 85 degC, 20-Pin SOIC, Pb-Free, Tape and Reel; Manufacturer: On Semiconductor; PartNumber: CAT5241WI-50-T1; # of Pots: 4; # of Taps: 64; VDD Max (V): 6; DatasheetVersion: Rev. 20; PackageVersion: Rev. O, 12/2008; PackageReference: SOIC-20-751BJ-01; PackageDescription: 20-Pin Small Outline Integrated Circuit, Body 12.8 x 7.5 mm, Pitch 1.27 mm; Supplier 1: Mouser; Supplier Part Number 1: 863-CAT5241WI-50-T1; Control Interface: I2C; Packing: Tape and Reel; RoHS: TRUE; Type: Potentiometer; Mounting Technology: Surface Mount; Code_JEDEC: MS-013; ComponentLink1Description: Manufacturer URL; ComponentLink1URL: http://www.onsemi.com/; ComponentLink2Description: Datasheet; ComponentLink2URL: http://www.onsemi.cn/pub_link/Collateral/CAT5241-D.PDF; ComponentLink3Description: Package Specification; ComponentLink3URL: http://www.onsemi.cn/pub_link/Collateral/751BJ.PDF
footprint ONSC-SOIC-20-751BJ-01_N (SOIC, 20-Leads, Body 13x7.6mm, Pitch 1.27mm, IPC Medium Density)
footprint ONSC-SOIC-20-751BJ-01_L (SOIC, 20-Leads, Body 13x7.6mm, Pitch 1.27mm, IPC High Density)
footprint ONSC-SOIC-20-751BJ-01_M (SOIC, 20-Leads, Body 13x7.6mm, Pitch 1.27mm, IPC Low Density)
pins: 1 RW0 "Wiper Terminal for Potentiometer 0", 2 RL0 "Low Reference Terminal for Potentiometer 0", 3 RH0 "High Reference Terminal for Potentiometer 0", 4 A0 (in) "Device Address, LSB", 5 A2 (in) "Device Address", 6 RW1 "Wiper Terminal for Potentiometer 1", 7 RL1 "Low Reference Terminal for Potentiometer 1", 8 RH1 "High Reference Terminal for Potentiometer 1", 9 SDA (io) "Serial Data Input/Output", 10 GND (power) "Ground", 11 RH2 "High Reference Terminal for Potentiometer 2", 12 RL2 "Low Reference Terminal for Potentiometer 2", 13 RW2 "Wiper Terminal forPotentiometer 2", 14 SCL (in) "Bus Serial Clock", 15 A3 (in) "Device Address", 16 A1 (in) "Device Address", 17 RH3 "High Reference Terminal for Potentiometer 3", 18 RL3 "Low Reference Terminal for Potentiometer 3", 19 RW3 "Wiper Terminal for Potentiometer 3", 20 VCC (power) "Supply Voltage"

## CAT5241YI00
designator U?
Quad Digital Potentiometer (POT) with 64 Tap and I2C Interface, -40 to 85 degC, 20-Pin TSSOP, Pb-Free, Tube; Manufacturer: On Semiconductor; PartNumber: CAT5241YI00; # of Pots: 4; # of Taps: 64; VDD Max (V): 6; DatasheetVersion: Rev. 20; PackageVersion: Rev. A, 03/2009; PackageReference: TSSOP-20-948AQ-01; PackageDescription: 20-Pin Small Outline Package, Body 6.5 x 4.4 mm, Pitch 0.65 mm; Supplier 1: Mouser; Supplier Part Number 1: 698-CAT5241YI-00; Control Interface: I2C; Packing: Tube; RoHS: TRUE; Type: Potentiometer; Mounting Technology: Surface Mount; Code_JEDEC: MO-153; ComponentLink1Description: Manufacturer URL; ComponentLink1URL: http://www.onsemi.com/; ComponentLink2Description: Datasheet; ComponentLink2URL: http://www.onsemi.cn/pub_link/Collateral/CAT5241-D.PDF; ComponentLink3Description: Package Specification; ComponentLink3URL: http://www.onsemi.cn/pub_link/Collateral/948AQ.PDF
footprint ONSC-TSSOP-20-948AQ-01_N (SOP, 20-Leads, Body 6.6x4.5mm, Pitch 0.65mm, IPC Medium Density)
footprint ONSC-TSSOP-20-948AQ-01_L (SOP, 20-Leads, Body 6.6x4.5mm, Pitch 0.65mm, IPC High Density)
footprint ONSC-TSSOP-20-948AQ-01_M (SOP, 20-Leads, Body 6.6x4.5mm, Pitch 0.65mm, IPC Low Density)
pins: 1 RW0 "Wiper Terminal for Potentiometer 0", 2 RL0 "Low Reference Terminal for Potentiometer 0", 3 RH0 "High Reference Terminal for Potentiometer 0", 4 A0 (in) "Device Address, LSB", 5 A2 (in) "Device Address", 6 RW1 "Wiper Terminal for Potentiometer 1", 7 RL1 "Low Reference Terminal for Potentiometer 1", 8 RH1 "High Reference Terminal for Potentiometer 1", 9 SDA (io) "Serial Data Input/Output", 10 GND (power) "Ground", 11 RH2 "High Reference Terminal for Potentiometer 2", 12 RL2 "Low Reference Terminal for Potentiometer 2", 13 RW2 "Wiper Terminal forPotentiometer 2", 14 SCL (in) "Bus Serial Clock", 15 A3 (in) "Device Address", 16 A1 (in) "Device Address", 17 RH3 "High Reference Terminal for Potentiometer 3", 18 RL3 "Low Reference Terminal for Potentiometer 3", 19 RW3 "Wiper Terminal for Potentiometer 3", 20 VCC (power) "Supply Voltage"

## CAT5241YI10
designator U?
Quad Digital Potentiometer (POT) with 64 Tap and I2C Interface, -40 to 85 degC, 20-Pin TSSOP, Pb-Free, Tube; Manufacturer: On Semiconductor; PartNumber: CAT5241YI10; # of Pots: 4; # of Taps: 64; VDD Max (V): 6; DatasheetVersion: Rev. 20; PackageVersion: Rev. A, 03/2009; PackageReference: TSSOP-20-948AQ-01; PackageDescription: 20-Pin Small Outline Package, Body 6.5 x 4.4 mm, Pitch 0.65 mm; Supplier 1: Mouser; Supplier Part Number 1: 698-CAT5241YI-10; Control Interface: I2C; Packing: Tube; RoHS: TRUE; Type: Potentiometer; Mounting Technology: Surface Mount; Code_JEDEC: MO-153; ComponentLink1Description: Manufacturer URL; ComponentLink1URL: http://www.onsemi.com/; ComponentLink2Description: Datasheet; ComponentLink2URL: http://www.onsemi.cn/pub_link/Collateral/CAT5241-D.PDF; ComponentLink3Description: Package Specification; ComponentLink3URL: http://www.onsemi.cn/pub_link/Collateral/948AQ.PDF
footprint ONSC-TSSOP-20-948AQ-01_N (SOP, 20-Leads, Body 6.6x4.5mm, Pitch 0.65mm, IPC Medium Density)
footprint ONSC-TSSOP-20-948AQ-01_L (SOP, 20-Leads, Body 6.6x4.5mm, Pitch 0.65mm, IPC High Density)
footprint ONSC-TSSOP-20-948AQ-01_M (SOP, 20-Leads, Body 6.6x4.5mm, Pitch 0.65mm, IPC Low Density)
pins: 1 RW0 "Wiper Terminal for Potentiometer 0", 2 RL0 "Low Reference Terminal for Potentiometer 0", 3 RH0 "High Reference Terminal for Potentiometer 0", 4 A0 (in) "Device Address, LSB", 5 A2 (in) "Device Address", 6 RW1 "Wiper Terminal for Potentiometer 1", 7 RL1 "Low Reference Terminal for Potentiometer 1", 8 RH1 "High Reference Terminal for Potentiometer 1", 9 SDA (io) "Serial Data Input/Output", 10 GND (power) "Ground", 11 RH2 "High Reference Terminal for Potentiometer 2", 12 RL2 "Low Reference Terminal for Potentiometer 2", 13 RW2 "Wiper Terminal forPotentiometer 2", 14 SCL (in) "Bus Serial Clock", 15 A3 (in) "Device Address", 16 A1 (in) "Device Address", 17 RH3 "High Reference Terminal for Potentiometer 3", 18 RL3 "Low Reference Terminal for Potentiometer 3", 19 RW3 "Wiper Terminal for Potentiometer 3", 20 VCC (power) "Supply Voltage"